# Altium integrated library Maxim Power and Battery Management.IntLib: 645 symbols (part 14 of 15)
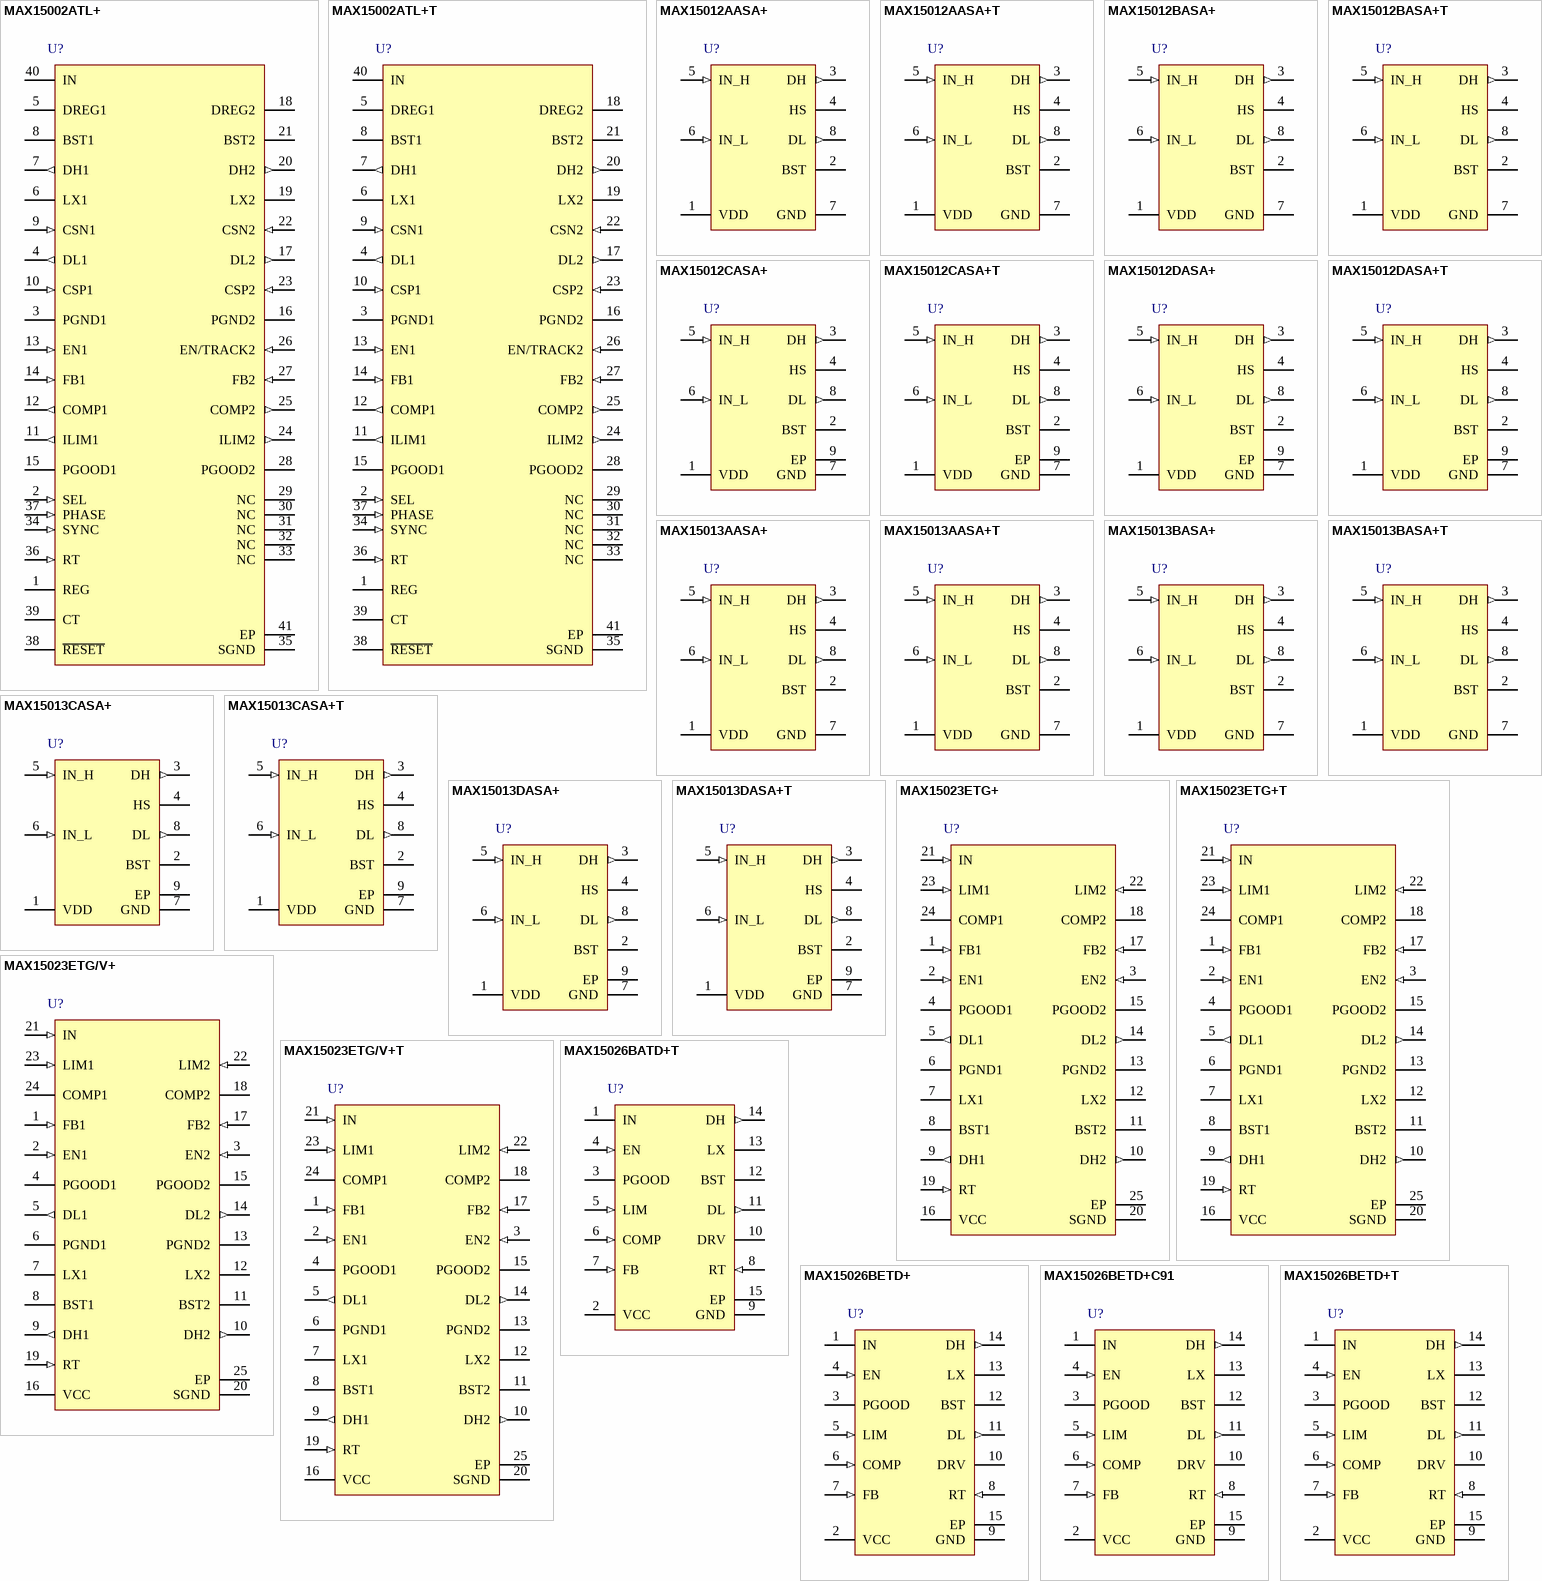
[diagram p32: symbols MAX15002ATL+ to MAX15026BETD+T]

## MAX15023ETG/V+
designator U?
Wide 4.5V to 28V Input, Dual-Output Synchronous Buck Controller, 24-Pin TQFN, -40°C to +85°C, Pb-Free; DatasheetVersion: Rev 2, Mar-2011; PackageVersion: revK, 2011; PackageReference: T2444+4; PackageDescription: 24-Pin Thin Quad Flatpack, No Leads, 4 x 4 x 0.75 mm Body, 0.5 mm Pitch, TQFN, Pb-Free; ComponentLink1Description: Manufacturer URL; ComponentLink1URL: http://www.maxim-ic.com; ComponentLink2Description: Datasheet; ComponentLink2URL: http://datasheets.maxim-ic.com/en/ds/MAX15023.pdf; ComponentLink3Description: Package Specification; ComponentLink3URL: http://pdfserv.maxim-ic.com/package_dwgs/21-0139.PDF
footprint T2444+4_N (QFN, 24-Leads, Body 4x4mm, Pitch 0.5mm, Thermal Pad 2.7x2.7mm, IPC Medium Density)
footprint T2444+4_L (QFN, 24-Leads, Body 4x4mm, Pitch 0.5mm, Thermal Pad 2.7x2.7mm, IPC High Density)
footprint T2444+4_M (QFN, 24-Leads, Body 4x4mm, Pitch 0.5mm, Thermal Pad 2.7x2.7mm, IPC Low Density)
pins: 1 FB1 (in), 2 EN1 (in), 3 EN2 (in), 4 PGOOD1 (oc), 5 DL1 (out), 6 PGND1 (power), 7 LX1, 8 BST1, 9 DH1 (out), 10 DH2 (out), 11 BST2, 12 LX2, 13 PGND2 (power), 14 DL2 (out), 15 PGOOD2 (oc), 16 VCC (power), 17 FB2 (in), 18 COMP2, 19 RT (in), 20 SGND (power), 21 IN (in), 22 LIM2 (in), 23 LIM1 (in), 24 COMP1, 25 EP (power)

## MAX15023ETG/V+T
designator U?
Wide 4.5V to 28V Input, Dual-Output Synchronous Buck Controller, 24-Pin TQFN, -40°C to +85°C, Pb-Free, Tape and Reel; DatasheetVersion: Rev 2, Mar-2011; PackageVersion: revK, 2011; PackageReference: T2444+4; PackageDescription: 24-Pin Thin Quad Flatpack, No Leads, 4 x 4 x 0.75 mm Body, 0.5 mm Pitch, TQFN, Pb-Free; ComponentLink1Description: Manufacturer URL; ComponentLink1URL: http://www.maxim-ic.com; ComponentLink2Description: Datasheet; ComponentLink2URL: http://datasheets.maxim-ic.com/en/ds/MAX15023.pdf; ComponentLink3Description: Package Specification; ComponentLink3URL: http://pdfserv.maxim-ic.com/package_dwgs/21-0139.PDF
footprint T2444+4_N (QFN, 24-Leads, Body 4x4mm, Pitch 0.5mm, Thermal Pad 2.7x2.7mm, IPC Medium Density)
footprint T2444+4_L (QFN, 24-Leads, Body 4x4mm, Pitch 0.5mm, Thermal Pad 2.7x2.7mm, IPC High Density)
footprint T2444+4_M (QFN, 24-Leads, Body 4x4mm, Pitch 0.5mm, Thermal Pad 2.7x2.7mm, IPC Low Density)
pins: 1 FB1 (in), 2 EN1 (in), 3 EN2 (in), 4 PGOOD1 (oc), 5 DL1 (out), 6 PGND1 (power), 7 LX1, 8 BST1, 9 DH1 (out), 10 DH2 (out), 11 BST2, 12 LX2, 13 PGND2 (power), 14 DL2 (out), 15 PGOOD2 (oc), 16 VCC (power), 17 FB2 (in), 18 COMP2, 19 RT (in), 20 SGND (power), 21 IN (in), 22 LIM2 (in), 23 LIM1 (in), 24 COMP1, 25 EP (power)

## MAX15026BATD+T
designator U?
4.5V to 28V Wide Operating Range, DC-DC Synchronous Buck Controller, 14-Pin TDFN-EP, -40°C to +125°C, Pb-Free, Tape and Reel; DatasheetVersion: Rev 3, Apr-2011; PackageVersion: revJ, 2009; PackageReference: T1433+2; PackageDescription: 14-Pin Plastic Very Very Thin Dual Flatpack No Leads (TDFN-EP), 3 x 3 x 0.8 mm Body, 0.4 mm Pitch, Pb-Free; ComponentLink1Description: Manufacturer URL; ComponentLink1URL: http://www.maxim-ic.com; ComponentLink2Description: Datasheet; ComponentLink2URL: http://datasheets.maxim-ic.com/en/ds/MAX15026.pdf; ComponentLink3Description: Package Specification; ComponentLink3URL: http://pdfserv.maxim-ic.com/package_dwgs/21-0137.PDF
footprint T1433+2_V (SON, 14-Leads, Body 3x3mm, Pitch 0.4mm, Thermal Pad 2.35x1.78mm, Maxim Recommended)
pins: 1 IN (power), 2 VCC (power), 3 PGOOD (oc), 4 EN (in), 5 LIM (in), 6 COMP (in), 7 FB (in), 8 RT (in), 9 GND (power), 10 DRV (power), 11 DL (out), 12 BST, 13 LX, 14 DH (out), 15 EP (power)

## MAX15026BETD+
designator U?
4.5V to 28V Wide Operating Range, DC-DC Synchronous Buck Controller, 14-Pin TDFN-EP, -40°C to +85°C, Pb-Free; DatasheetVersion: Rev 3, Apr-2011; PackageVersion: revJ, 2009; PackageReference: T1433+2; PackageDescription: 14-Pin Plastic Very Very Thin Dual Flatpack No Leads (TDFN-EP), 3 x 3 x 0.8 mm Body, 0.4 mm Pitch, Pb-Free; ComponentLink1Description: Manufacturer URL; ComponentLink1URL: http://www.maxim-ic.com; ComponentLink2Description: Datasheet; ComponentLink2URL: http://datasheets.maxim-ic.com/en/ds/MAX15026.pdf; ComponentLink3Description: Package Specification; ComponentLink3URL: http://pdfserv.maxim-ic.com/package_dwgs/21-0137.PDF
footprint T1433+2_V (SON, 14-Leads, Body 3x3mm, Pitch 0.4mm, Thermal Pad 2.35x1.78mm, Maxim Recommended)
pins: 1 IN (power), 2 VCC (power), 3 PGOOD (oc), 4 EN (in), 5 LIM (in), 6 COMP (in), 7 FB (in), 8 RT (in), 9 GND (power), 10 DRV (power), 11 DL (out), 12 BST, 13 LX, 14 DH (out), 15 EP (power)

## MAX15026BETD+C91
designator U?
4.5V to 28V Wide Operating Range, DC-DC Synchronous Buck Controller, 14-Pin TDFN-EP, -40°C to +85°C, Pb-Free; DatasheetVersion: Rev 3, Apr-2011; PackageVersion: revJ, 2009; PackageReference: T1433+2; PackageDescription: 14-Pin Plastic Very Very Thin Dual Flatpack No Leads (TDFN-EP), 3 x 3 x 0.8 mm Body, 0.4 mm Pitch, Pb-Free; ComponentLink1Description: Manufacturer URL; ComponentLink1URL: http://www.maxim-ic.com; ComponentLink2Description: Datasheet; ComponentLink2URL: http://datasheets.maxim-ic.com/en/ds/MAX15026.pdf; ComponentLink3Description: Package Specification; ComponentLink3URL: http://pdfserv.maxim-ic.com/package_dwgs/21-0137.PDF
footprint T1433+2_V (SON, 14-Leads, Body 3x3mm, Pitch 0.4mm, Thermal Pad 2.35x1.78mm, Maxim Recommended)
pins: 1 IN (power), 2 VCC (power), 3 PGOOD (oc), 4 EN (in), 5 LIM (in), 6 COMP (in), 7 FB (in), 8 RT (in), 9 GND (power), 10 DRV (power), 11 DL (out), 12 BST, 13 LX, 14 DH (out), 15 EP (power)

## MAX15026BETD+T
designator U?
4.5V to 28V Wide Operating Range, DC-DC Synchronous Buck Controller, 14-Pin TDFN-EP, -40°C to +85°C, Pb-Free, Tape and Reel; DatasheetVersion: Rev 3, Apr-2011; PackageVersion: revJ, 2009; PackageReference: T1433+2; PackageDescription: 14-Pin Plastic Very Very Thin Dual Flatpack No Leads (TDFN-EP), 3 x 3 x 0.8 mm Body, 0.4 mm Pitch, Pb-Free; ComponentLink1Description: Manufacturer URL; ComponentLink1URL: http://www.maxim-ic.com; ComponentLink2Description: Datasheet; ComponentLink2URL: http://datasheets.maxim-ic.com/en/ds/MAX15026.pdf; ComponentLink3Description: Package Specification; ComponentLink3URL: http://pdfserv.maxim-ic.com/package_dwgs/21-0137.PDF
footprint T1433+2_V (SON, 14-Leads, Body 3x3mm, Pitch 0.4mm, Thermal Pad 2.35x1.78mm, Maxim Recommended)
pins: 1 IN (power), 2 VCC (power), 3 PGOOD (oc), 4 EN (in), 5 LIM (in), 6 COMP (in), 7 FB (in), 8 RT (in), 9 GND (power), 10 DRV (power), 11 DL (out), 12 BST, 13 LX, 14 DH (out), 15 EP (power)

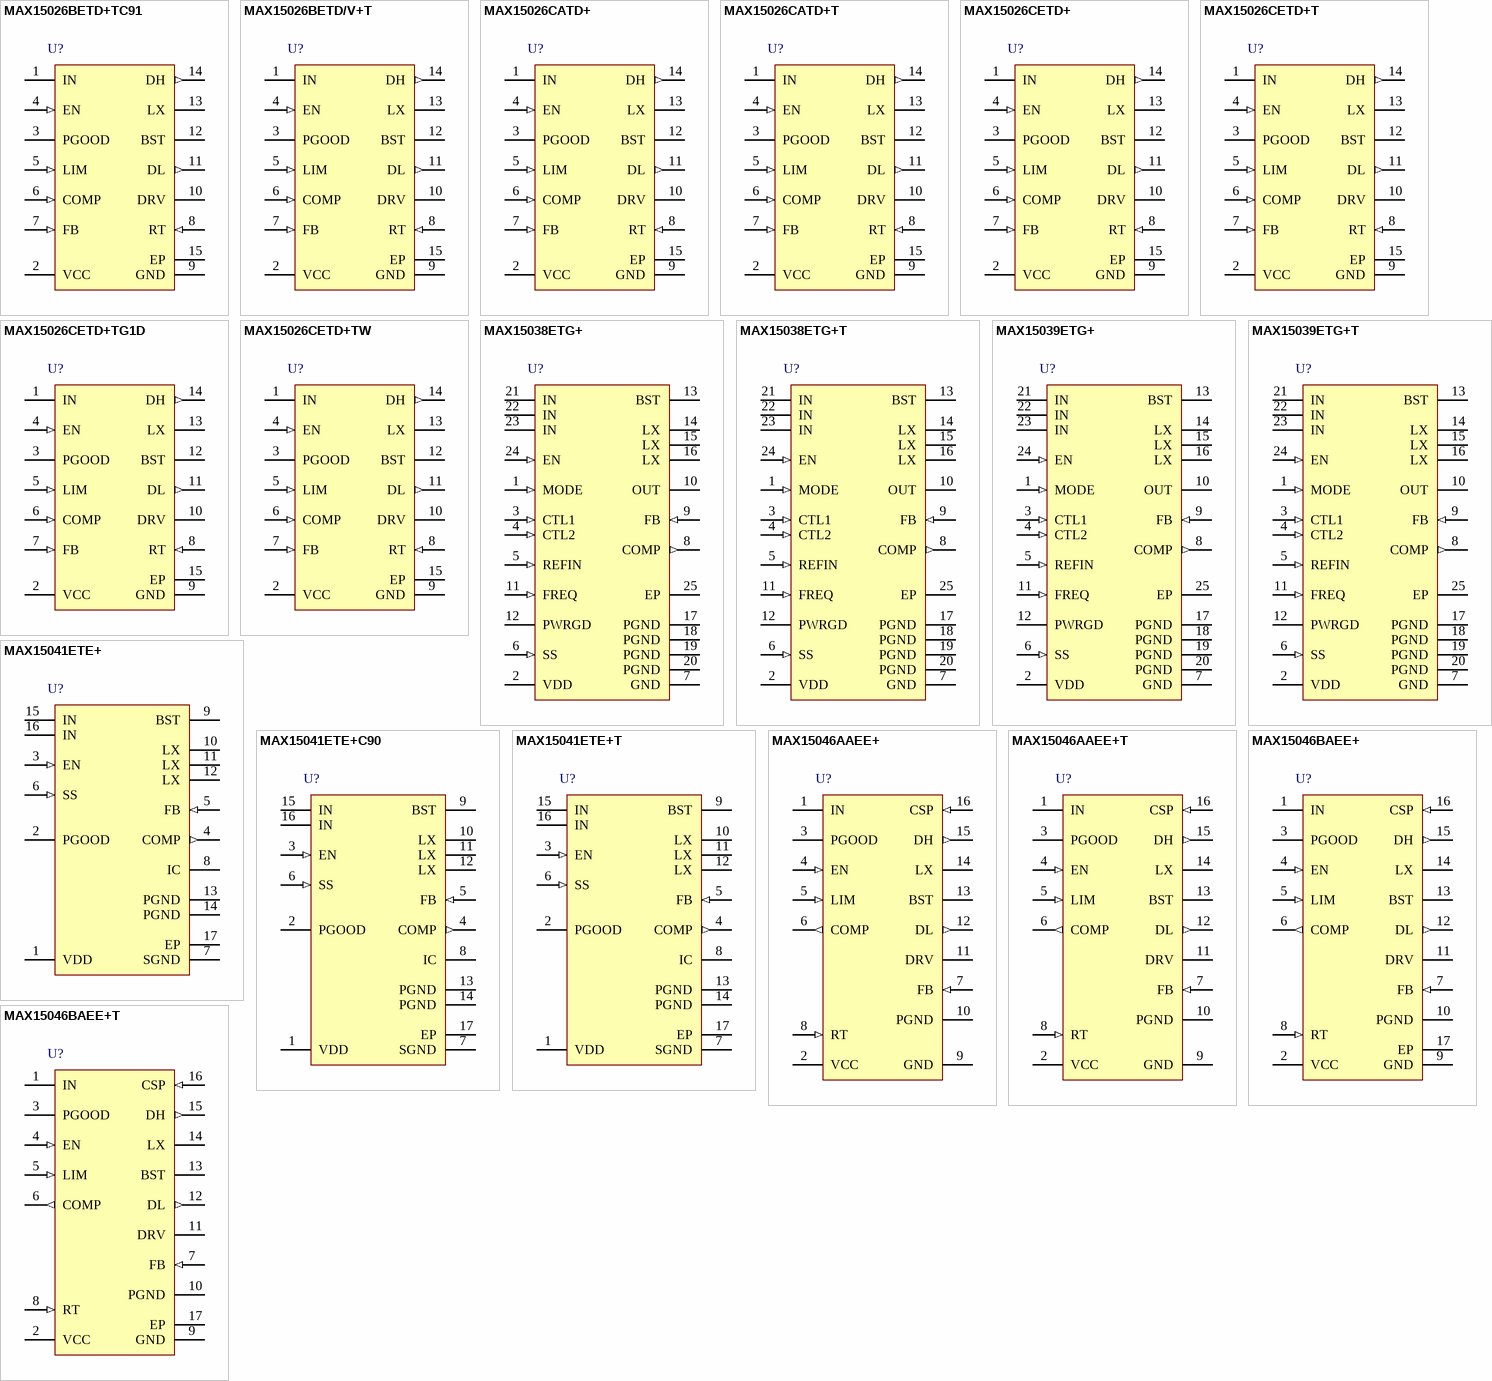
[diagram p18: symbols MAX15026BETD+TC91 to MAX15046BAEE+T]

## MAX15026BETD+TC91
designator U?
4.5V to 28V Wide Operating Range, DC-DC Synchronous Buck Controller, 14-Pin TDFN-EP, -40°C to +85°C, Pb-Free, Tape and Reel; DatasheetVersion: Rev 3, Apr-2011; PackageVersion: revJ, 2009; PackageReference: T1433+2; PackageDescription: 14-Pin Plastic Very Very Thin Dual Flatpack No Leads (TDFN-EP), 3 x 3 x 0.8 mm Body, 0.4 mm Pitch, Pb-Free; ComponentLink1Description: Manufacturer URL; ComponentLink1URL: http://www.maxim-ic.com; ComponentLink2Description: Datasheet; ComponentLink2URL: http://datasheets.maxim-ic.com/en/ds/MAX15026.pdf; ComponentLink3Description: Package Specification; ComponentLink3URL: http://pdfserv.maxim-ic.com/package_dwgs/21-0137.PDF
footprint T1433+2_V (SON, 14-Leads, Body 3x3mm, Pitch 0.4mm, Thermal Pad 2.35x1.78mm, Maxim Recommended)
pins: 1 IN (power), 2 VCC (power), 3 PGOOD (oc), 4 EN (in), 5 LIM (in), 6 COMP (in), 7 FB (in), 8 RT (in), 9 GND (power), 10 DRV (power), 11 DL (out), 12 BST, 13 LX, 14 DH (out), 15 EP (power)

## MAX15026BETD/V+T
designator U?
4.5V to 28V Wide Operating Range, DC-DC Synchronous Buck Controller, 14-Pin TDFN-EP, -40°C to +85°C, Pb-Free, Tape and Reel; DatasheetVersion: Rev 3, Apr-2011; PackageVersion: revJ, 2009; PackageReference: T1433+2; PackageDescription: 14-Pin Plastic Very Very Thin Dual Flatpack No Leads (TDFN-EP), 3 x 3 x 0.8 mm Body, 0.4 mm Pitch, Pb-Free; ComponentLink1Description: Manufacturer URL; ComponentLink1URL: http://www.maxim-ic.com; ComponentLink2Description: Datasheet; ComponentLink2URL: http://datasheets.maxim-ic.com/en/ds/MAX15026.pdf; ComponentLink3Description: Package Specification; ComponentLink3URL: http://pdfserv.maxim-ic.com/package_dwgs/21-0137.PDF
footprint T1433+2_V (SON, 14-Leads, Body 3x3mm, Pitch 0.4mm, Thermal Pad 2.35x1.78mm, Maxim Recommended)
pins: 1 IN (power), 2 VCC (power), 3 PGOOD (oc), 4 EN (in), 5 LIM (in), 6 COMP (in), 7 FB (in), 8 RT (in), 9 GND (power), 10 DRV (power), 11 DL (out), 12 BST, 13 LX, 14 DH (out), 15 EP (power)

## MAX15026CATD+
designator U?
4.5V to 28V Wide Operating Range, DC-DC Synchronous Buck Controller, 14-Pin TDFN-EP, -40°C to +125°C, Pb-Free; DatasheetVersion: Rev 3, Apr-2011; PackageVersion: revJ, 2009; PackageReference: T1433+2; PackageDescription: 14-Pin Plastic Very Very Thin Dual Flatpack No Leads (TDFN-EP), 3 x 3 x 0.8 mm Body, 0.4 mm Pitch, Pb-Free; ComponentLink1Description: Manufacturer URL; ComponentLink1URL: http://www.maxim-ic.com; ComponentLink2Description: Datasheet; ComponentLink2URL: http://datasheets.maxim-ic.com/en/ds/MAX15026.pdf; ComponentLink3Description: Package Specification; ComponentLink3URL: http://pdfserv.maxim-ic.com/package_dwgs/21-0137.PDF
footprint T1433+2_V (SON, 14-Leads, Body 3x3mm, Pitch 0.4mm, Thermal Pad 2.35x1.78mm, Maxim Recommended)
pins: 1 IN (power), 2 VCC (power), 3 PGOOD (oc), 4 EN (in), 5 LIM (in), 6 COMP (in), 7 FB (in), 8 RT (in), 9 GND (power), 10 DRV (power), 11 DL (out), 12 BST, 13 LX, 14 DH (out), 15 EP (power)

## MAX15026CATD+T
designator U?
4.5V to 28V Wide Operating Range, DC-DC Synchronous Buck Controller, 14-Pin TDFN-EP, -40°C to +125°C, Pb-Free, Tape and Reel; DatasheetVersion: Rev 3, Apr-2011; PackageVersion: revJ, 2009; PackageReference: T1433+2; PackageDescription: 14-Pin Plastic Very Very Thin Dual Flatpack No Leads (TDFN-EP), 3 x 3 x 0.8 mm Body, 0.4 mm Pitch, Pb-Free; ComponentLink1Description: Manufacturer URL; ComponentLink1URL: http://www.maxim-ic.com; ComponentLink2Description: Datasheet; ComponentLink2URL: http://datasheets.maxim-ic.com/en/ds/MAX15026.pdf; ComponentLink3Description: Package Specification; ComponentLink3URL: http://pdfserv.maxim-ic.com/package_dwgs/21-0137.PDF
footprint T1433+2_V (SON, 14-Leads, Body 3x3mm, Pitch 0.4mm, Thermal Pad 2.35x1.78mm, Maxim Recommended)
pins: 1 IN (power), 2 VCC (power), 3 PGOOD (oc), 4 EN (in), 5 LIM (in), 6 COMP (in), 7 FB (in), 8 RT (in), 9 GND (power), 10 DRV (power), 11 DL (out), 12 BST, 13 LX, 14 DH (out), 15 EP (power)

## MAX15026CETD+
designator U?
4.5V to 28V Wide Operating Range, DC-DC Synchronous Buck Controller, 14-Pin TDFN-EP, -40°C to +85°C, Pb-Free; DatasheetVersion: Rev 3, Apr-2011; PackageVersion: revJ, 2009; PackageReference: T1433+2; PackageDescription: 14-Pin Plastic Very Very Thin Dual Flatpack No Leads (TDFN-EP), 3 x 3 x 0.8 mm Body, 0.4 mm Pitch, Pb-Free; ComponentLink1Description: Manufacturer URL; ComponentLink1URL: http://www.maxim-ic.com; ComponentLink2Description: Datasheet; ComponentLink2URL: http://datasheets.maxim-ic.com/en/ds/MAX15026.pdf; ComponentLink3Description: Package Specification; ComponentLink3URL: http://pdfserv.maxim-ic.com/package_dwgs/21-0137.PDF
footprint T1433+2_V (SON, 14-Leads, Body 3x3mm, Pitch 0.4mm, Thermal Pad 2.35x1.78mm, Maxim Recommended)
pins: 1 IN (power), 2 VCC (power), 3 PGOOD (oc), 4 EN (in), 5 LIM (in), 6 COMP (in), 7 FB (in), 8 RT (in), 9 GND (power), 10 DRV (power), 11 DL (out), 12 BST, 13 LX, 14 DH (out), 15 EP (power)

## MAX15026CETD+T
designator U?
4.5V to 28V Wide Operating Range, DC-DC Synchronous Buck Controller, 14-Pin TDFN-EP, -40°C to +85°C, Pb-Free, Tape and Reel; DatasheetVersion: Rev 3, Apr-2011; PackageVersion: revJ, 2009; PackageReference: T1433+2; PackageDescription: 14-Pin Plastic Very Very Thin Dual Flatpack No Leads (TDFN-EP), 3 x 3 x 0.8 mm Body, 0.4 mm Pitch, Pb-Free; ComponentLink1Description: Manufacturer URL; ComponentLink1URL: http://www.maxim-ic.com; ComponentLink2Description: Datasheet; ComponentLink2URL: http://datasheets.maxim-ic.com/en/ds/MAX15026.pdf; ComponentLink3Description: Package Specification; ComponentLink3URL: http://pdfserv.maxim-ic.com/package_dwgs/21-0137.PDF
footprint T1433+2_V (SON, 14-Leads, Body 3x3mm, Pitch 0.4mm, Thermal Pad 2.35x1.78mm, Maxim Recommended)
pins: 1 IN (power), 2 VCC (power), 3 PGOOD (oc), 4 EN (in), 5 LIM (in), 6 COMP (in), 7 FB (in), 8 RT (in), 9 GND (power), 10 DRV (power), 11 DL (out), 12 BST, 13 LX, 14 DH (out), 15 EP (power)

## MAX15026CETD+TG1D
designator U?
4.5V to 28V Wide Operating Range, DC-DC Synchronous Buck Controller, 14-Pin TDFN-EP, -40°C to +85°C, Pb-Free, Tape and Reel; DatasheetVersion: Rev 3, Apr-2011; PackageVersion: revJ, 2009; PackageReference: T1433+2; PackageDescription: 14-Pin Plastic Very Very Thin Dual Flatpack No Leads (TDFN-EP), 3 x 3 x 0.8 mm Body, 0.4 mm Pitch, Pb-Free; ComponentLink1Description: Manufacturer URL; ComponentLink1URL: http://www.maxim-ic.com; ComponentLink2Description: Datasheet; ComponentLink2URL: http://datasheets.maxim-ic.com/en/ds/MAX15026.pdf; ComponentLink3Description: Package Specification; ComponentLink3URL: http://pdfserv.maxim-ic.com/package_dwgs/21-0137.PDF
footprint T1433+2_V (SON, 14-Leads, Body 3x3mm, Pitch 0.4mm, Thermal Pad 2.35x1.78mm, Maxim Recommended)
pins: 1 IN (power), 2 VCC (power), 3 PGOOD (oc), 4 EN (in), 5 LIM (in), 6 COMP (in), 7 FB (in), 8 RT (in), 9 GND (power), 10 DRV (power), 11 DL (out), 12 BST, 13 LX, 14 DH (out), 15 EP (power)

## MAX15026CETD+TW
designator U?
4.5V to 28V Wide Operating Range, DC-DC Synchronous Buck Controller, 14-Pin TDFN-EP, -40°C to +85°C, Pb-Free, Tape and Reel; DatasheetVersion: Rev 3, Apr-2011; PackageVersion: revJ, 2009; PackageReference: T1433+2; PackageDescription: 14-Pin Plastic Very Very Thin Dual Flatpack No Leads (TDFN-EP), 3 x 3 x 0.8 mm Body, 0.4 mm Pitch, Pb-Free; ComponentLink1Description: Manufacturer URL; ComponentLink1URL: http://www.maxim-ic.com; ComponentLink2Description: Datasheet; ComponentLink2URL: http://datasheets.maxim-ic.com/en/ds/MAX15026.pdf; ComponentLink3Description: Package Specification; ComponentLink3URL: http://pdfserv.maxim-ic.com/package_dwgs/21-0137.PDF
footprint T1433+2_V (SON, 14-Leads, Body 3x3mm, Pitch 0.4mm, Thermal Pad 2.35x1.78mm, Maxim Recommended)
pins: 1 IN (power), 2 VCC (power), 3 PGOOD (oc), 4 EN (in), 5 LIM (in), 6 COMP (in), 7 FB (in), 8 RT (in), 9 GND (power), 10 DRV (power), 11 DL (out), 12 BST, 13 LX, 14 DH (out), 15 EP (power)

## MAX15038ETG+
designator U?
4A, 2MHz Step-Down Regulator with Integrated Switches, 24-Pin TQFN, -40°C to +85°C, Pb-Free; DatasheetVersion: Rev 3, Dec-2010; PackageVersion: revK, 2011; PackageReference: T2444+4; PackageDescription: 24-Pin Thin Quad Flatpack, No Leads, 4 x 4 x 0.75 mm Body, 0.5 mm Pitch, TQFN, Pb-Free; ComponentLink1Description: Manufacturer URL; ComponentLink1URL: http://www.maxim-ic.com; ComponentLink2Description: Datasheet; ComponentLink2URL: http://datasheets.maxim-ic.com/en/ds/MAX15038.pdf; ComponentLink3Description: Package Specification; ComponentLink3URL: http://pdfserv.maxim-ic.com/package_dwgs/21-0139.PDF
footprint T2444+4_N (QFN, 24-Leads, Body 4x4mm, Pitch 0.5mm, Thermal Pad 2.7x2.7mm, IPC Medium Density)
footprint T2444+4_L (QFN, 24-Leads, Body 4x4mm, Pitch 0.5mm, Thermal Pad 2.7x2.7mm, IPC High Density)
footprint T2444+4_M (QFN, 24-Leads, Body 4x4mm, Pitch 0.5mm, Thermal Pad 2.7x2.7mm, IPC Low Density)
pins: 1 MODE (in), 2 VDD (power), 3 CTL1 (in), 4 CTL2 (in), 5 REFIN (in), 6 SS (in), 7 GND (power), 8 COMP (out), 9 FB (in), 10 OUT, 11 FREQ (in), 12 PWRGD (oc), 13 BST, 14 LX, 15 LX, 16 LX, 17 PGND (power), 18 PGND (power), 19 PGND (power), 20 PGND (power), 21 IN (power), 22 IN (power), 23 IN (power), 24 EN (in), 25 EP (power)

## MAX15038ETG+T
designator U?
4A, 2MHz Step-Down Regulator with Integrated Switches, 24-Pin TQFN, -40°C to +85°C, Pb-Free, Tape and Reel; DatasheetVersion: Rev 3, Dec-2010; PackageVersion: revK, 2011; PackageReference: T2444+4; PackageDescription: 24-Pin Thin Quad Flatpack, No Leads, 4 x 4 x 0.75 mm Body, 0.5 mm Pitch, TQFN, Pb-Free; ComponentLink1Description: Manufacturer URL; ComponentLink1URL: http://www.maxim-ic.com; ComponentLink2Description: Datasheet; ComponentLink2URL: http://datasheets.maxim-ic.com/en/ds/MAX15038.pdf; ComponentLink3Description: Package Specification; ComponentLink3URL: http://pdfserv.maxim-ic.com/package_dwgs/21-0139.PDF
footprint T2444+4_N (QFN, 24-Leads, Body 4x4mm, Pitch 0.5mm, Thermal Pad 2.7x2.7mm, IPC Medium Density)
footprint T2444+4_L (QFN, 24-Leads, Body 4x4mm, Pitch 0.5mm, Thermal Pad 2.7x2.7mm, IPC High Density)
footprint T2444+4_M (QFN, 24-Leads, Body 4x4mm, Pitch 0.5mm, Thermal Pad 2.7x2.7mm, IPC Low Density)
pins: 1 MODE (in), 2 VDD (power), 3 CTL1 (in), 4 CTL2 (in), 5 REFIN (in), 6 SS (in), 7 GND (power), 8 COMP (out), 9 FB (in), 10 OUT, 11 FREQ (in), 12 PWRGD (oc), 13 BST, 14 LX, 15 LX, 16 LX, 17 PGND (power), 18 PGND (power), 19 PGND (power), 20 PGND (power), 21 IN (power), 22 IN (power), 23 IN (power), 24 EN (in), 25 EP (power)

## MAX15039ETG+
designator U?
6A, 2MHz Step-Down Regulator with Integrated Switches, 24-Pin TQFN, -40°C to +85°C, Pb-Free; DatasheetVersion: Rev 3, Dec-2010; PackageVersion: revK, 2011; PackageReference: T2444+4; PackageDescription: 24-Pin Thin Quad Flatpack, No Leads, 4 x 4 x 0.75 mm Body, 0.5 mm Pitch, TQFN, Pb-Free; ComponentLink1Description: Manufacturer URL; ComponentLink1URL: http://www.maxim-ic.com; ComponentLink2Description: Datasheet; ComponentLink2URL: http://datasheets.maxim-ic.com/en/ds/MAX15039.pdf; ComponentLink3Description: Package Specification; ComponentLink3URL: http://pdfserv.maxim-ic.com/package_dwgs/21-0139.PDF
footprint T2444+4_N (QFN, 24-Leads, Body 4x4mm, Pitch 0.5mm, Thermal Pad 2.7x2.7mm, IPC Medium Density)
footprint T2444+4_L (QFN, 24-Leads, Body 4x4mm, Pitch 0.5mm, Thermal Pad 2.7x2.7mm, IPC High Density)
footprint T2444+4_M (QFN, 24-Leads, Body 4x4mm, Pitch 0.5mm, Thermal Pad 2.7x2.7mm, IPC Low Density)
pins: 1 MODE (in), 2 VDD (power), 3 CTL1 (in), 4 CTL2 (in), 5 REFIN (in), 6 SS (in), 7 GND (power), 8 COMP (out), 9 FB (in), 10 OUT, 11 FREQ (in), 12 PWRGD (oc), 13 BST, 14 LX, 15 LX, 16 LX, 17 PGND (power), 18 PGND (power), 19 PGND (power), 20 PGND (power), 21 IN (power), 22 IN (power), 23 IN (power), 24 EN (in), 25 EP (power)

## MAX15039ETG+T
designator U?
6A, 2MHz Step-Down Regulator with Integrated Switches, 24-Pin TQFN, -40°C to +85°C, Pb-Free, Tape and Reel; DatasheetVersion: Rev 3, Dec-2010; PackageVersion: revK, 2011; PackageReference: T2444+4; PackageDescription: 24-Pin Thin Quad Flatpack, No Leads, 4 x 4 x 0.75 mm Body, 0.5 mm Pitch, TQFN, Pb-Free; ComponentLink1Description: Manufacturer URL; ComponentLink1URL: http://www.maxim-ic.com; ComponentLink2Description: Datasheet; ComponentLink2URL: http://datasheets.maxim-ic.com/en/ds/MAX15039.pdf; ComponentLink3Description: Package Specification; ComponentLink3URL: http://pdfserv.maxim-ic.com/package_dwgs/21-0139.PDF
footprint T2444+4_N (QFN, 24-Leads, Body 4x4mm, Pitch 0.5mm, Thermal Pad 2.7x2.7mm, IPC Medium Density)
footprint T2444+4_L (QFN, 24-Leads, Body 4x4mm, Pitch 0.5mm, Thermal Pad 2.7x2.7mm, IPC High Density)
footprint T2444+4_M (QFN, 24-Leads, Body 4x4mm, Pitch 0.5mm, Thermal Pad 2.7x2.7mm, IPC Low Density)
pins: 1 MODE (in), 2 VDD (power), 3 CTL1 (in), 4 CTL2 (in), 5 REFIN (in), 6 SS (in), 7 GND (power), 8 COMP (out), 9 FB (in), 10 OUT, 11 FREQ (in), 12 PWRGD (oc), 13 BST, 14 LX, 15 LX, 16 LX, 17 PGND (power), 18 PGND (power), 19 PGND (power), 20 PGND (power), 21 IN (power), 22 IN (power), 23 IN (power), 24 EN (in), 25 EP (power)

## MAX15041ETE+
designator U?
Low-Cost, 3A, 4.5V to 28V Input, 350kHz, PWM Step-Down DC-DC Regulator with Internal Switches, 16-Pin TQFN, -40°C to +85°C, Pb-Free; DatasheetVersion: Rev 3, Mar-2011; PackageVersion: revJ, 2010; PackageReference: T1633+4; PackageDescription: 16-Pin Thin Quad Flatpack, No Leads, 3 x 3 x 0.75 mm Body, 0.5 mm Pitch, TQFN, Pb-Free; Code_JEDEC: MO-220WEED-2; ComponentLink1Description: Manufacturer URL; ComponentLink1URL: http://www.maxim-ic.com; ComponentLink2Description: Datasheet; ComponentLink2URL: http://datasheets.maxim-ic.com/en/ds/MAX15041.pdf; ComponentLink3Description: Package Specification; ComponentLink3URL: http://pdfserv.maxim-ic.com/package_dwgs/21-0136.PDF
footprint T1633+4_N (QFN, 16-Leads, Body 3x3mm, Pitch 0.5mm, Thermal Pad 1.1x1.1mm, IPC Medium Density)
footprint T1633+4_L (QFN, 16-Leads, Body 3x3mm, Pitch 0.5mm, Thermal Pad 1.1x1.1mm, IPC High Density)
footprint T1633+4_M (QFN, 16-Leads, Body 3x3mm, Pitch 0.5mm, Thermal Pad 1.1x1.1mm, IPC Low Density)
pins: 1 VDD (power), 2 PGOOD (oc), 3 EN (in), 4 COMP (out), 5 FB (in), 6 SS (in), 7 SGND (power), 8 IC (power), 9 BST, 10 LX, 11 LX, 12 LX, 13 PGND (power), 14 PGND (power), 15 IN (power), 16 IN (power), 17 EP (power)

## MAX15041ETE+C90
designator U?
Custom Low-Cost, 3A, 4.5V to 28V Input, 350kHz, PWM Step-Down DC-DC Regulator with Internal Switches, 16-Pin TQFN, -40°C to +85°C, Pb-Free, Tape and Reel; DatasheetVersion: Rev 3, Mar-2011; PackageVersion: revJ, 2010; PackageReference: T1633+4; PackageDescription: 16-Pin Thin Quad Flatpack, No Leads, 3 x 3 x 0.75 mm Body, 0.5 mm Pitch, TQFN, Pb-Free; Code_JEDEC: MO-220WEED-2; ComponentLink1Description: Manufacturer URL; ComponentLink1URL: http://www.maxim-ic.com; ComponentLink2Description: Datasheet; ComponentLink2URL: http://datasheets.maxim-ic.com/en/ds/MAX15041.pdf; ComponentLink3Description: Package Specification; ComponentLink3URL: http://pdfserv.maxim-ic.com/package_dwgs/21-0136.PDF
footprint T1633+4_N (QFN, 16-Leads, Body 3x3mm, Pitch 0.5mm, Thermal Pad 1.1x1.1mm, IPC Medium Density)
footprint T1633+4_L (QFN, 16-Leads, Body 3x3mm, Pitch 0.5mm, Thermal Pad 1.1x1.1mm, IPC High Density)
footprint T1633+4_M (QFN, 16-Leads, Body 3x3mm, Pitch 0.5mm, Thermal Pad 1.1x1.1mm, IPC Low Density)
pins: 1 VDD (power), 2 PGOOD (oc), 3 EN (in), 4 COMP (out), 5 FB (in), 6 SS (in), 7 SGND (power), 8 IC (power), 9 BST, 10 LX, 11 LX, 12 LX, 13 PGND (power), 14 PGND (power), 15 IN (power), 16 IN (power), 17 EP (power)

## MAX15041ETE+T
designator U?
Low-Cost, 3A, 4.5V to 28V Input, 350kHz, PWM Step-Down DC-DC Regulator with Internal Switches, 16-Pin TQFN, -40°C to +85°C, Pb-Free, Tape and Reel; DatasheetVersion: Rev 3, Mar-2011; PackageVersion: revJ, 2010; PackageReference: T1633+4; PackageDescription: 16-Pin Thin Quad Flatpack, No Leads, 3 x 3 x 0.75 mm Body, 0.5 mm Pitch, TQFN, Pb-Free; Code_JEDEC: MO-220WEED-2; ComponentLink1Description: Manufacturer URL; ComponentLink1URL: http://www.maxim-ic.com; ComponentLink2Description: Datasheet; ComponentLink2URL: http://datasheets.maxim-ic.com/en/ds/MAX15041.pdf; ComponentLink3Description: Package Specification; ComponentLink3URL: http://pdfserv.maxim-ic.com/package_dwgs/21-0136.PDF
footprint T1633+4_N (QFN, 16-Leads, Body 3x3mm, Pitch 0.5mm, Thermal Pad 1.1x1.1mm, IPC Medium Density)
footprint T1633+4_L (QFN, 16-Leads, Body 3x3mm, Pitch 0.5mm, Thermal Pad 1.1x1.1mm, IPC High Density)
footprint T1633+4_M (QFN, 16-Leads, Body 3x3mm, Pitch 0.5mm, Thermal Pad 1.1x1.1mm, IPC Low Density)
pins: 1 VDD (power), 2 PGOOD (oc), 3 EN (in), 4 COMP (out), 5 FB (in), 6 SS (in), 7 SGND (power), 8 IC (power), 9 BST, 10 LX, 11 LX, 12 LX, 13 PGND (power), 14 PGND (power), 15 IN (power), 16 IN (power), 17 EP (power)

## MAX15046AAEE+
designator U?
40V, High-Performance, Synchronous Buck Controller, 16-Pin QSOP, -40°C to +125°C, Pb-Free; DatasheetVersion: Rev 1, Feb-2010; PackageVersion: revJ, 2009; PackageReference: E16+4; PackageDescription: 16-Pin Quarter Small-Outline Package (QSOP) 0.150" Width, 0.025" Pitch, Pb-Free; Code_JEDEC: MO-137-AB; ComponentLink1Description: Manufacturer URL; ComponentLink1URL: http://www.maxim-ic.com; ComponentLink2Description: Datasheet; ComponentLink2URL: http://datasheets.maxim-ic.com/en/ds/MAX15046-MAX15046B.pdf; ComponentLink3Description: Package Specification; ComponentLink3URL: http://pdfserv.maxim-ic.com/package_dwgs/21-0055.PDF
footprint E16+4_N (SOP, 16-Leads, Body 4.9x3.9mm, Pitch 0.635mm, IPC Medium Density)
footprint E16+4_L (SOP, 16-Leads, Body 4.9x3.9mm, Pitch 0.635mm, IPC High Density)
footprint E16+4_M (SOP, 16-Leads, Body 4.9x3.9mm, Pitch 0.635mm, IPC Low Density)
pins: 1 IN (power), 2 VCC (power), 3 PGOOD (oc), 4 EN (in), 5 LIM (in), 6 COMP (out), 7 FB (in), 8 RT (in), 9 GND (power), 10 PGND (power), 11 DRV (power), 12 DL (out), 13 BST, 14 LX, 15 DH (out), 16 CSP (in)

## MAX15046AAEE+T
designator U?
40V, High-Performance, Synchronous Buck Controller, 16-Pin QSOP, -40°C to +125°C, Pb-Free, Tape and Reel; DatasheetVersion: Rev 1, Feb-2010; PackageVersion: revJ, 2009; PackageReference: E16+4; PackageDescription: 16-Pin Quarter Small-Outline Package (QSOP) 0.150" Width, 0.025" Pitch, Pb-Free; Code_JEDEC: MO-137-AB; ComponentLink1Description: Manufacturer URL; ComponentLink1URL: http://www.maxim-ic.com; ComponentLink2Description: Datasheet; ComponentLink2URL: http://datasheets.maxim-ic.com/en/ds/MAX15046-MAX15046B.pdf; ComponentLink3Description: Package Specification; ComponentLink3URL: http://pdfserv.maxim-ic.com/package_dwgs/21-0055.PDF
footprint E16+4_N (SOP, 16-Leads, Body 4.9x3.9mm, Pitch 0.635mm, IPC Medium Density)
footprint E16+4_L (SOP, 16-Leads, Body 4.9x3.9mm, Pitch 0.635mm, IPC High Density)
footprint E16+4_M (SOP, 16-Leads, Body 4.9x3.9mm, Pitch 0.635mm, IPC Low Density)
pins: 1 IN (power), 2 VCC (power), 3 PGOOD (oc), 4 EN (in), 5 LIM (in), 6 COMP (out), 7 FB (in), 8 RT (in), 9 GND (power), 10 PGND (power), 11 DRV (power), 12 DL (out), 13 BST, 14 LX, 15 DH (out), 16 CSP (in)

## MAX15046BAEE+
designator U?
40V, High-Performance, Synchronous Buck Controller, 16-Pin QSOP-EP, -40°C to +125°C, Pb-Free; DatasheetVersion: Rev 1, Feb-2010; PackageVersion: revH, 2010; PackageReference: E16E+9; PackageDescription: 16-Pin Quarter Small-Outline Package, Exposed Pad, (QSOP-EP) 0.150" Width, 0.635 mm Pitch, Pb-Free; ComponentLink1Description: Manufacturer URL; ComponentLink1URL: http://www.maxim-ic.com; ComponentLink2Description: Datasheet; ComponentLink2URL: http://datasheets.maxim-ic.com/en/ds/MAX15046-MAX15046B.pdf; ComponentLink3Description: Package Specification; ComponentLink3URL: http://pdfserv.maxim-ic.com/package_dwgs/21-0112.PDF
footprint E16E+9_N (SOP, 16-Leads, Body 4.9x3.9mm, Pitch 0.635mm, Thermal Pad 2.15x2.3mm, IPC Medium Density)
footprint E16E+9_L (SOP, 16-Leads, Body 4.9x3.9mm, Pitch 0.635mm, Thermal Pad 2.15x2.3mm, IPC High Density)
footprint E16E+9_M (SOP, 16-Leads, Body 4.9x3.9mm, Pitch 0.635mm, Thermal Pad 2.15x2.3mm, IPC Low Density)
pins: 1 IN (power), 2 VCC (power), 3 PGOOD (oc), 4 EN (in), 5 LIM (in), 6 COMP (out), 7 FB (in), 8 RT (in), 9 GND (power), 10 PGND (power), 11 DRV (power), 12 DL (out), 13 BST, 14 LX, 15 DH (out), 16 CSP (in), 17 EP (power)

## MAX15046BAEE+T
designator U?
40V, High-Performance, Synchronous Buck Controller, 16-Pin QSOP-EP, -40°C to +125°C, Pb-Free, Tape and Reel; DatasheetVersion: Rev 1, Feb-2010; PackageVersion: revH, 2010; PackageReference: E16E+9; PackageDescription: 16-Pin Quarter Small-Outline Package, Exposed Pad, (QSOP-EP) 0.150" Width, 0.635 mm Pitch, Pb-Free; ComponentLink1Description: Manufacturer URL; ComponentLink1URL: http://www.maxim-ic.com; ComponentLink2Description: Datasheet; ComponentLink2URL: http://datasheets.maxim-ic.com/en/ds/MAX15046-MAX15046B.pdf; ComponentLink3Description: Package Specification; ComponentLink3URL: http://pdfserv.maxim-ic.com/package_dwgs/21-0112.PDF
footprint E16E+9_N (SOP, 16-Leads, Body 4.9x3.9mm, Pitch 0.635mm, Thermal Pad 2.15x2.3mm, IPC Medium Density)
footprint E16E+9_L (SOP, 16-Leads, Body 4.9x3.9mm, Pitch 0.635mm, Thermal Pad 2.15x2.3mm, IPC High Density)
footprint E16E+9_M (SOP, 16-Leads, Body 4.9x3.9mm, Pitch 0.635mm, Thermal Pad 2.15x2.3mm, IPC Low Density)
pins: 1 IN (power), 2 VCC (power), 3 PGOOD (oc), 4 EN (in), 5 LIM (in), 6 COMP (out), 7 FB (in), 8 RT (in), 9 GND (power), 10 PGND (power), 11 DRV (power), 12 DL (out), 13 BST, 14 LX, 15 DH (out), 16 CSP (in), 17 EP (power)

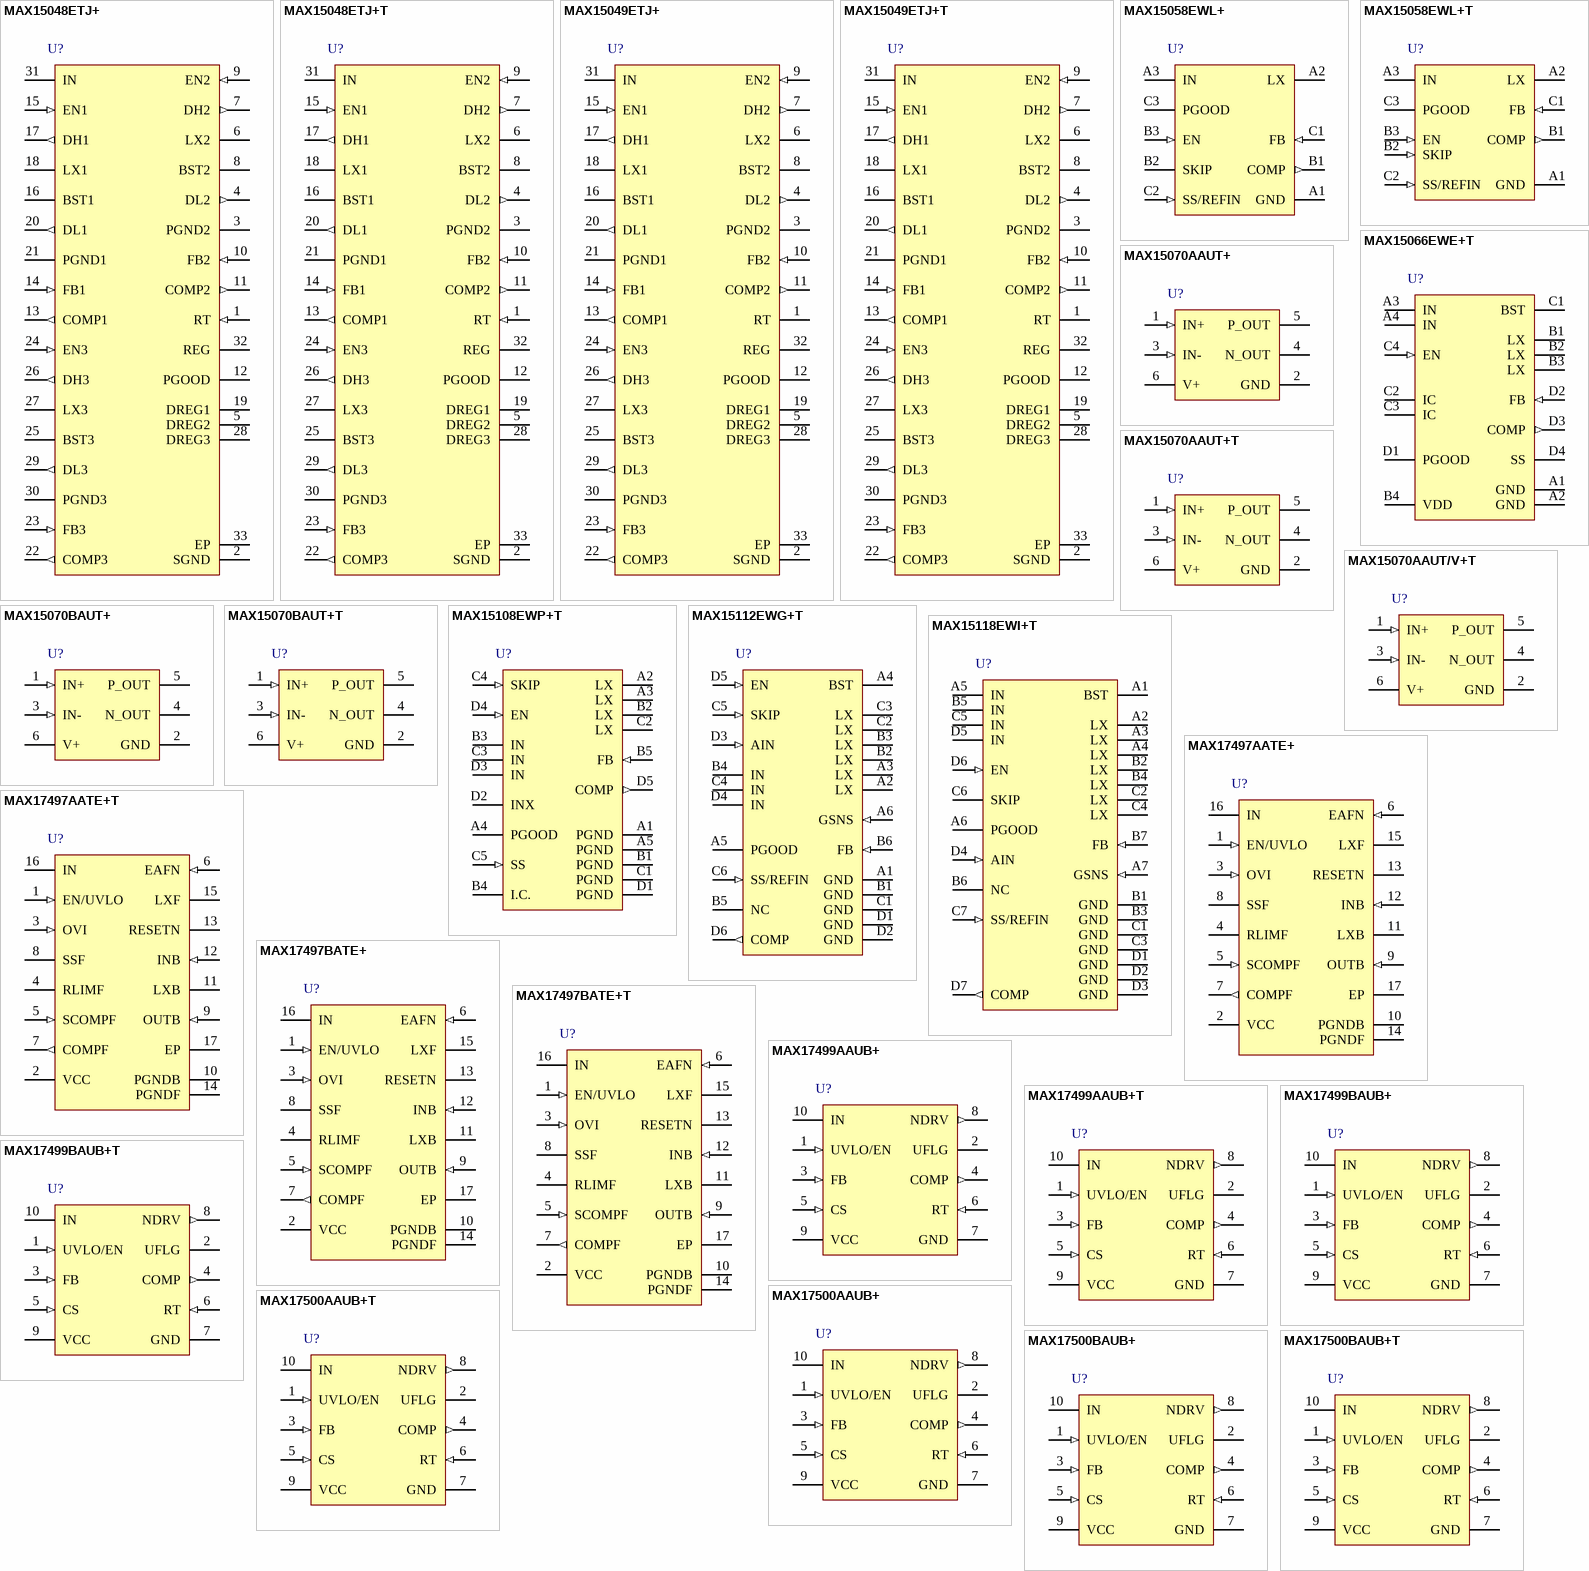
[diagram p19: symbols MAX15048ETJ+ to MAX17500BAUB+T]

## MAX15048ETJ+
designator U?
Triple-Output Buck Controller with Tracking/Sequencing, 32-Pin TQFN, -40°C to +85°C, Pb-Free; DatasheetVersion: Rev 0, Jan-2010; PackageVersion: revO, 2011; PackageReference: T3255+4; PackageDescription: 32-Pin Thin Quad Flatpack, No Leads, 5 x 5 x 0.75 mm Body, 0.5 mm Pitch, TQFN, Pb-Free; Code_JEDEC: MO-220-WHHD-2; ComponentLink1Description: Manufacturer URL; ComponentLink1URL: http://www.maxim-ic.com; ComponentLink2Description: Datasheet; ComponentLink2URL: http://datasheets.maxim-ic.com/en/ds/MAX15048-MAX15049.pdf; ComponentLink3Description: Package Specification; ComponentLink3URL: http://pdfserv.maxim-ic.com/package_dwgs/21-0140.PDF
footprint T3255+4_N (QFN, 32-Leads, Body 5x5mm, Pitch 0.5mm, Thermal Pad 3.2x3.2mm, IPC Medium Density)
footprint T3255+4_L (QFN, 32-Leads, Body 5x5mm, Pitch 0.5mm, Thermal Pad 3.2x3.2mm, IPC High Density)
footprint T3255+4_M (QFN, 32-Leads, Body 5x5mm, Pitch 0.5mm, Thermal Pad 3.2x3.2mm, IPC Low Density)
pins: 1 RT (in), 2 SGND (power), 3 PGND2 (power), 4 DL2 (out), 5 DREG2 (power), 6 LX2, 7 DH2 (out), 8 BST2 (power), 9 EN2 (in), 10 FB2 (in), 11 COMP2 (out), 12 PGOOD (oc), 13 COMP1 (out), 14 FB1 (in), 15 EN1 (in), 16 BST1 (power), 17 DH1 (out), 18 LX1, 19 DREG1 (power), 20 DL1 (out), 21 PGND1 (power), 22 COMP3 (out), 23 FB3 (in), 24 EN3 (in), 25 BST3 (power), 26 DH3 (out), 27 LX3, 28 DREG3 (power), 29 DL3 (out), 30 PGND3 (power), 31 IN (power), 32 REG (power), 33 EP (power)

## MAX15048ETJ+T
designator U?
Triple-Output Buck Controller with Tracking/Sequencing, 32-Pin TQFN, -40°C to +85°C, Pb-Free, Tape and Reel; DatasheetVersion: Rev 0, Jan-2010; PackageVersion: revO, 2011; PackageReference: T3255+4; PackageDescription: 32-Pin Thin Quad Flatpack, No Leads, 5 x 5 x 0.75 mm Body, 0.5 mm Pitch, TQFN, Pb-Free; Code_JEDEC: MO-220-WHHD-2; ComponentLink1Description: Manufacturer URL; ComponentLink1URL: http://www.maxim-ic.com; ComponentLink2Description: Datasheet; ComponentLink2URL: http://datasheets.maxim-ic.com/en/ds/MAX15048-MAX15049.pdf; ComponentLink3Description: Package Specification; ComponentLink3URL: http://pdfserv.maxim-ic.com/package_dwgs/21-0140.PDF
footprint T3255+4_N (QFN, 32-Leads, Body 5x5mm, Pitch 0.5mm, Thermal Pad 3.2x3.2mm, IPC Medium Density)
footprint T3255+4_L (QFN, 32-Leads, Body 5x5mm, Pitch 0.5mm, Thermal Pad 3.2x3.2mm, IPC High Density)
footprint T3255+4_M (QFN, 32-Leads, Body 5x5mm, Pitch 0.5mm, Thermal Pad 3.2x3.2mm, IPC Low Density)
pins: 1 RT (in), 2 SGND (power), 3 PGND2 (power), 4 DL2 (out), 5 DREG2 (power), 6 LX2, 7 DH2 (out), 8 BST2 (power), 9 EN2 (in), 10 FB2 (in), 11 COMP2 (out), 12 PGOOD (oc), 13 COMP1 (out), 14 FB1 (in), 15 EN1 (in), 16 BST1 (power), 17 DH1 (out), 18 LX1, 19 DREG1 (power), 20 DL1 (out), 21 PGND1 (power), 22 COMP3 (out), 23 FB3 (in), 24 EN3 (in), 25 BST3 (power), 26 DH3 (out), 27 LX3, 28 DREG3 (power), 29 DL3 (out), 30 PGND3 (power), 31 IN (power), 32 REG (power), 33 EP (power)

## MAX15049ETJ+
designator U?
Triple-Output Buck Controller with Tracking/Sequencing, 32-Pin TQFN, -40°C to +85°C, Pb-Free; DatasheetVersion: Rev 0, Jan-2010; PackageVersion: revO, 2011; PackageReference: T3255+4; PackageDescription: 32-Pin Thin Quad Flatpack, No Leads, 5 x 5 x 0.75 mm Body, 0.5 mm Pitch, TQFN, Pb-Free; Code_JEDEC: MO-220-WHHD-2; ComponentLink1Description: Manufacturer URL; ComponentLink1URL: http://www.maxim-ic.com; ComponentLink2Description: Datasheet; ComponentLink2URL: http://datasheets.maxim-ic.com/en/ds/MAX15048-MAX15049.pdf; ComponentLink3Description: Package Specification; ComponentLink3URL: http://pdfserv.maxim-ic.com/package_dwgs/21-0140.PDF
footprint T3255+4_N (QFN, 32-Leads, Body 5x5mm, Pitch 0.5mm, Thermal Pad 3.2x3.2mm, IPC Medium Density)
footprint T3255+4_L (QFN, 32-Leads, Body 5x5mm, Pitch 0.5mm, Thermal Pad 3.2x3.2mm, IPC High Density)
footprint T3255+4_M (QFN, 32-Leads, Body 5x5mm, Pitch 0.5mm, Thermal Pad 3.2x3.2mm, IPC Low Density)
pins: 1 RT, 2 SGND (power), 3 PGND2 (power), 4 DL2 (out), 5 DREG2 (power), 6 LX2, 7 DH2 (out), 8 BST2 (power), 9 EN2 (in), 10 FB2 (in), 11 COMP2 (out), 12 PGOOD (oc), 13 COMP1 (out), 14 FB1 (in), 15 EN1 (in), 16 BST1 (power), 17 DH1 (out), 18 LX1, 19 DREG1 (power), 20 DL1 (out), 21 PGND1 (power), 22 COMP3 (out), 23 FB3 (in), 24 EN3 (in), 25 BST3 (power), 26 DH3 (out), 27 LX3, 28 DREG3 (power), 29 DL3 (out), 30 PGND3 (power), 31 IN (power), 32 REG (power), 33 EP (power)

## MAX15049ETJ+T
designator U?
Triple-Output Buck Controller with Tracking/Sequencing, 32-Pin TQFN, -40°C to +85°C, Pb-Free, Tape and Reel; DatasheetVersion: Rev 0, Jan-2010; PackageVersion: revO, 2011; PackageReference: T3255+4; PackageDescription: 32-Pin Thin Quad Flatpack, No Leads, 5 x 5 x 0.75 mm Body, 0.5 mm Pitch, TQFN, Pb-Free; Code_JEDEC: MO-220-WHHD-2; ComponentLink1Description: Manufacturer URL; ComponentLink1URL: http://www.maxim-ic.com; ComponentLink2Description: Datasheet; ComponentLink2URL: http://datasheets.maxim-ic.com/en/ds/MAX15048-MAX15049.pdf; ComponentLink3Description: Package Specification; ComponentLink3URL: http://pdfserv.maxim-ic.com/package_dwgs/21-0140.PDF
footprint T3255+4_N (QFN, 32-Leads, Body 5x5mm, Pitch 0.5mm, Thermal Pad 3.2x3.2mm, IPC Medium Density)
footprint T3255+4_L (QFN, 32-Leads, Body 5x5mm, Pitch 0.5mm, Thermal Pad 3.2x3.2mm, IPC High Density)
footprint T3255+4_M (QFN, 32-Leads, Body 5x5mm, Pitch 0.5mm, Thermal Pad 3.2x3.2mm, IPC Low Density)
pins: 1 RT, 2 SGND (power), 3 PGND2 (power), 4 DL2 (out), 5 DREG2 (power), 6 LX2, 7 DH2 (out), 8 BST2 (power), 9 EN2 (in), 10 FB2 (in), 11 COMP2 (out), 12 PGOOD (oc), 13 COMP1 (out), 14 FB1 (in), 15 EN1 (in), 16 BST1 (power), 17 DH1 (out), 18 LX1, 19 DREG1 (power), 20 DL1 (out), 21 PGND1 (power), 22 COMP3 (out), 23 FB3 (in), 24 EN3 (in), 25 BST3 (power), 26 DH3 (out), 27 LX3, 28 DREG3 (power), 29 DL3 (out), 30 PGND3 (power), 31 IN (power), 32 REG (power), 33 EP (power)

## MAX15058EWL+
designator U?
High-Efficiency, 3A, Current-Mode Synchronous, Step-Down Switching Regulator, 9-Pin WLP, -40°C to +85°C, Pb-Free; DatasheetVersion: Rev 2, Jul-2011; PackageVersion: revA, 2010; PackageReference: W91E1Z+1; PackageDescription: 9-Bump WLP 0.5 mm Pitch, Pb-Free; ComponentLink1Description: Manufacturer URL; ComponentLink1URL: http://www.maxim-ic.com; ComponentLink2Description: Datasheet; ComponentLink2URL: http://datasheets.maxim-ic.com/en/ds/MAX15058.pdf; ComponentLink3Description: Package Specification; ComponentLink3URL: http://pdfserv.maxim-ic.com/package_dwgs/21-0508.PDF
footprint W91E1Z+1 (BGA, 9-Leads, Body 1.49x1.49mm, Pitch 0.5mm)
pins: A1 GND (power), A2 LX, A3 IN (power), B1 COMP (out), B2 SKIP, B3 EN (in), C1 FB (in), C2 SS/REFIN (in), C3 PGOOD (oc)

## MAX15058EWL+T
designator U?
High-Efficiency, 3A, Current-Mode Synchronous, Step-Down Switching Regulator, 9-Pin WLP, -40°C to +85°C, Pb-Free, Tape and Reel; DatasheetVersion: Rev 2, Jul-2011; PackageVersion: revA, 2010; PackageReference: W91E1Z+1; PackageDescription: 9-Bump WLP 0.5 mm Pitch, Pb-Free; ComponentLink1Description: Manufacturer URL; ComponentLink1URL: http://www.maxim-ic.com; ComponentLink2Description: Datasheet; ComponentLink2URL: http://datasheets.maxim-ic.com/en/ds/MAX15058.pdf; ComponentLink3Description: Package Specification; ComponentLink3URL: http://pdfserv.maxim-ic.com/package_dwgs/21-0508.PDF
footprint W91E1Z+1 (BGA, 9-Leads, Body 1.49x1.49mm, Pitch 0.5mm)
pins: A1 GND (power) "Analog Ground/Low-Side Switch Source Terminal. Connect to the PCB copper plane at one point near the input bypass capacitor return terminal.", A2 LX "Inductor Connection. Connect LX to the switched side of the inductor. LX is high impedance when the IC is in shutdown mode.", A3 IN (power) "Input Power Supply. Input supply range is from 2.7V to 5.5V. Bypass with a minimum 10uF ceramic capacitor to GND. See Figures 5 and 6.", B1 COMP (out) "Voltage Error-Amplifier Output. Connect the necessary compensation network from COMP to GND. See the Closing the Loop: Designing the Compensation Circuitry section.", B2 SKIP (in) "Skip-Mode Input. Connect to EN to select skip mode or leave unconnected for normal operation.", B3 EN (in) "Enable Input. EN is a digital input that turns the regulator on and ouF. Drive EN high to turn on the regula-tor. Connect to IN for always-on operation.", C1 FB (in) "Feedback Input. Connect FB to the center tap of an external resistor-divider from the output to GND to set the output voltage from 0.6V up to 94% of VIN.", C2 SS/REFIN (in) "Soft-Start/External Voltage Reference Input. Connect a capacitor from SS/REFIN to GND to set the startup time. See the Setting the Soft-Start Timesection for details on setting the soft-start time. Apply a voltage reference from 0V to VIN- 1.5V to drive", C3 PGOOD (oc) "Open-Drain Power-Good Output. PGOOD goes high when FB is above 555mV and pulls low if FB is below 527mV."

## MAX15066EWE+T
designator U?
High-Efficiency, 4A, Step-Down DC-DC Regulator with Internal Power Switches, 16-Pin WLP, -40°C to +85°C, Pb-Free, Tape and Reel; DatasheetVersion: Rev 3, Sep-2010; PackageVersion: revF, 2011; PackageReference: W162B2+1; PackageDescription: 16-Ball Wafer-Level Package (WLP) 4x4 Bump, Full Array, 0.5 mm Pitch, Pb-Free; ComponentLink1Description: Manufacturer URL; ComponentLink1URL: http://www.maxim-ic.com; ComponentLink2Description: Datasheet; ComponentLink2URL: http://datasheets.maxim-ic.com/en/ds/MAX15066.pdf; ComponentLink3Description: Package Specification; ComponentLink3URL: http://pdfserv.maxim-ic.com/package_dwgs/21-0200.PDF
footprint W162B2+1 (BGA, 16-Leads, Body 2.05x2.05mm, Pitch 0.5mm)
pins: A1 GND (power), A2 GND (power), A3 IN (power), A4 IN (power), B1 LX, B2 LX, B3 LX, B4 VDD (power), C1 BST (power), C2 IC, C3 IC, C4 EN (in), D1 PGOOD (oc), D2 FB (in), D3 COMP (out), D4 SS

## MAX15070AAUT+
designator U?
7A Sink, 3A Source, 12ns, SOT23 MOSFET Driver, 6-Pin SOT, -40°C to +125°C, Pb-Free; DatasheetVersion: Rev 1, Nov-2011; PackageVersion: revL, 2011; PackageReference: U6+1; PackageDescription: 6-Pin SOT-23 Package, 0.65 mm Pitch, 2.2 mm Lead Span, Pb-Free; Code_JEDEC: MO-178-AB; ComponentLink1Description: Manufacturer URL; ComponentLink1URL: http://www.maxim-ic.com; ComponentLink2Description: Datasheet; ComponentLink2URL: http://datasheets.maxim-ic.com/en/ds/MAX15070A-MAX15070B.pdf; ComponentLink3Description: Package Specification; ComponentLink3URL: http://pdfserv.maxim-ic.com/package_dwgs/21-0058.PDF
footprint U6+1_N (SOT23, 6-Leads, Body 2.9x1.6mm, Pitch 0.95mm, Lead Span 2.8mm, IPC Medium Density)
footprint U6+1_L (SOT23, 6-Leads, Body 2.9x1.6mm, Pitch 0.95mm, Lead Span 2.8mm, IPC High Density)
footprint U6+1_M (SOT23, 6-Leads, Body 2.9x1.6mm, Pitch 0.95mm, Lead Span 2.8mm, IPC Low Density)
pins: 1 IN+ (in), 2 GND (power), 3 IN- (in), 4 N_OUT (oc), 5 P_OUT (oe), 6 V+ (power)

## MAX15070AAUT+T
designator U?
7A Sink, 3A Source, 12ns, SOT23 MOSFET Driver, 6-Pin SOT, -40°C to +125°C, Pb-Free, Tape and Reel; DatasheetVersion: Rev 1, Nov-2011; PackageVersion: revL, 2011; PackageReference: U6+1; PackageDescription: 6-Pin SOT-23 Package, 0.65 mm Pitch, 2.2 mm Lead Span, Pb-Free; Code_JEDEC: MO-178-AB; ComponentLink1Description: Manufacturer URL; ComponentLink1URL: http://www.maxim-ic.com; ComponentLink2Description: Datasheet; ComponentLink2URL: http://datasheets.maxim-ic.com/en/ds/MAX15070A-MAX15070B.pdf; ComponentLink3Description: Package Specification; ComponentLink3URL: http://pdfserv.maxim-ic.com/package_dwgs/21-0058.PDF
footprint U6+1_N (SOT23, 6-Leads, Body 2.9x1.6mm, Pitch 0.95mm, Lead Span 2.8mm, IPC Medium Density)
footprint U6+1_L (SOT23, 6-Leads, Body 2.9x1.6mm, Pitch 0.95mm, Lead Span 2.8mm, IPC High Density)
footprint U6+1_M (SOT23, 6-Leads, Body 2.9x1.6mm, Pitch 0.95mm, Lead Span 2.8mm, IPC Low Density)
pins: 1 IN+ (in), 2 GND (power), 3 IN- (in), 4 N_OUT (oc), 5 P_OUT (oe), 6 V+ (power)

## MAX15070AAUT/V+T
designator U?
7A Sink, 3A Source, 12ns, SOT23 MOSFET Driver, 6-Pin SOT, -40°C to +125°C, Pb-Free, Tape and Reel; DatasheetVersion: Rev 1, Nov-2011; PackageVersion: revL, 2011; PackageReference: U6+1; PackageDescription: 6-Pin SOT-23 Package, 0.65 mm Pitch, 2.2 mm Lead Span, Pb-Free; Code_JEDEC: MO-178-AB; ComponentLink1Description: Manufacturer URL; ComponentLink1URL: http://www.maxim-ic.com; ComponentLink2Description: Datasheet; ComponentLink2URL: http://datasheets.maxim-ic.com/en/ds/MAX15070A-MAX15070B.pdf; ComponentLink3Description: Package Specification; ComponentLink3URL: http://pdfserv.maxim-ic.com/package_dwgs/21-0058.PDF
footprint U6+1_N (SOT23, 6-Leads, Body 2.9x1.6mm, Pitch 0.95mm, Lead Span 2.8mm, IPC Medium Density)
footprint U6+1_L (SOT23, 6-Leads, Body 2.9x1.6mm, Pitch 0.95mm, Lead Span 2.8mm, IPC High Density)
footprint U6+1_M (SOT23, 6-Leads, Body 2.9x1.6mm, Pitch 0.95mm, Lead Span 2.8mm, IPC Low Density)
pins: 1 IN+ (in), 2 GND (power), 3 IN- (in), 4 N_OUT (oc), 5 P_OUT (oe), 6 V+ (power)

## MAX15070BAUT+
designator U?
7A Sink, 3A Source, 12ns, SOT23 MOSFET Driver, 6-Pin SOT, -40°C to +125°C, Pb-Free; DatasheetVersion: Rev 1, Nov-2011; PackageVersion: revL, 2011; PackageReference: U6+1; PackageDescription: 6-Pin SOT-23 Package, 0.65 mm Pitch, 2.2 mm Lead Span, Pb-Free; Code_JEDEC: MO-178-AB; ComponentLink1Description: Manufacturer URL; ComponentLink1URL: http://www.maxim-ic.com; ComponentLink2Description: Datasheet; ComponentLink2URL: http://datasheets.maxim-ic.com/en/ds/MAX15070A-MAX15070B.pdf; ComponentLink3Description: Package Specification; ComponentLink3URL: http://pdfserv.maxim-ic.com/package_dwgs/21-0058.PDF
footprint U6+1_N (SOT23, 6-Leads, Body 2.9x1.6mm, Pitch 0.95mm, Lead Span 2.8mm, IPC Medium Density)
footprint U6+1_L (SOT23, 6-Leads, Body 2.9x1.6mm, Pitch 0.95mm, Lead Span 2.8mm, IPC High Density)
footprint U6+1_M (SOT23, 6-Leads, Body 2.9x1.6mm, Pitch 0.95mm, Lead Span 2.8mm, IPC Low Density)
pins: 1 IN+ (in), 2 GND (power), 3 IN- (in), 4 N_OUT (oc), 5 P_OUT (oe), 6 V+ (power)

## MAX15070BAUT+T
designator U?
7A Sink, 3A Source, 12ns, SOT23 MOSFET Driver, 6-Pin SOT, -40°C to +125°C, Pb-Free, Tape and Reel; DatasheetVersion: Rev 1, Nov-2011; PackageVersion: revL, 2011; PackageReference: U6+1; PackageDescription: 6-Pin SOT-23 Package, 0.65 mm Pitch, 2.2 mm Lead Span, Pb-Free; Code_JEDEC: MO-178-AB; ComponentLink1Description: Manufacturer URL; ComponentLink1URL: http://www.maxim-ic.com; ComponentLink2Description: Datasheet; ComponentLink2URL: http://datasheets.maxim-ic.com/en/ds/MAX15070A-MAX15070B.pdf; ComponentLink3Description: Package Specification; ComponentLink3URL: http://pdfserv.maxim-ic.com/package_dwgs/21-0058.PDF
footprint U6+1_N (SOT23, 6-Leads, Body 2.9x1.6mm, Pitch 0.95mm, Lead Span 2.8mm, IPC Medium Density)
footprint U6+1_L (SOT23, 6-Leads, Body 2.9x1.6mm, Pitch 0.95mm, Lead Span 2.8mm, IPC High Density)
footprint U6+1_M (SOT23, 6-Leads, Body 2.9x1.6mm, Pitch 0.95mm, Lead Span 2.8mm, IPC Low Density)
pins: 1 IN+ (in), 2 GND (power), 3 IN- (in), 4 N_OUT (oc), 5 P_OUT (oe), 6 V+ (power)

## MAX15108EWP+T
designator U?
High-Efficiency, 8A, Current-Mode Synchronous, Step-Down Switching Regulator, 20-Pin WLP, -40°C to +85°C, Pb-Free, Tape and Reel; DatasheetVersion: Rev 1, Sep-2011; PackageVersion: revC, 2012; PackageReference: W202D2Z+1; PackageDescription: 20-Ball Wafer-Level Package 4x5 Bump, Full Array, 0.5 mm Pitch, Pb-Free; ComponentLink1Description: Manufacturer URL; ComponentLink1URL: http://www.maxim-ic.com; ComponentLink2Description: Datasheet; ComponentLink2URL: http://datasheets.maxim-ic.com/en/ds/MAX15108.pdf; ComponentLink3Description: Package Specification; ComponentLink3URL: http://pdfserv.maxim-ic.com/package_dwgs/21-0505.PDF
footprint W202D2Z+1 (BGA, 20-Leads, Body 2.1x2.6mm, Pitch 0.5mm)
pins: A1 PGND (power) "Power Ground. Low-side switch source terminal. Connect PGND and the return terminals of input and output capacitors to the power ground plane.", A2 LX "Inductor Connection. Connect LX to the switching side of the inductor. LX is high impedance when the device is in shutdown mode.", A3 LX "Inductor Connection. Connect LX to the switching side of the inductor. LX is high impedance when the device is in shutdown mode.", A4 PGOOD (oc) "Open-Drain Power-Good Output. PGOOD goes low when VFBis below 530mV.", A5 PGND (power) "Power Ground. Low-side switch source terminal. Connect PGND and the return terminals of input and output capacitors to the power ground plane.", B1 PGND (power) "Power Ground. Low-side switch source terminal. Connect PGND and the return terminals of input and output capacitors to the power ground plane.", B2 LX "Inductor Connection. Connect LX to the switching side of the inductor. LX is high impedance when the device is in shutdown mode.", B3 IN (power) "Input Power Supply. Input supply range is 2.7V to 5.5V. Bypass IN with a minimum 10uF ceramic capacitor to PGND. See the Typical Application Circuit.", B4 I.C. "Internally Connected. Leave unconnected.", B5 FB (in) "Feedback Input. Connect FB to the center tap of an external resistive voltage-divider from the output to PGND to set the output voltage from 0.6Vto 95% of VIN.", C1 PGND (power) "Power Ground. Low-side switch source terminal. Connect PGND and the return terminals of input and output capacitors to the power ground plane.", C2 LX "Inductor Connection. Connect LX to the switching side of the inductor. LX is high impedance when the device is in shutdown mode.", C3 IN (power) "Input Power Supply. Input supply range is 2.7V to 5.5V. Bypass IN with a minimum 10uF ceramic capacitor to PGND. See the Typical Application Circuit.", C4 SKIP (in) "Skip Mode Input. Connect SKIP to EN to select skip mode or leave unconnected for fixed-frequency PWM operation.", C5 SS (in) "Soft-Start. Connect a capacitor from SS to PGND to set the startup time. See the Soft-Startsection for details on setting the soft-start time. SS is also an external reference input. Apply an external voltage reference from 0V to VIN- 1.5V to drive soft-", D1 PGND (power) "Power Ground. Low-side switch source terminal. Connect PGND and the return terminals of input and output capacitors to the power ground plane.", D2 INX "Input Bump for Control Section. Connect to IN.", D3 IN (power) "Input Power Supply. Input supply range is 2.7V to 5.5V. Bypass IN with a minimum 10uF ceramic capacitor to PGND. See the Typical Application Circuit.", D4 EN (in) "Enable Input. EN is a digital input that turns the regulator on and ouF. Drive EN high to turn on the regulator. Connect to IN for always-on operation.", D5 COMP (out) "Error Amplifier Output. Connect compensation network from COMP to signal ground (SGND). See the Compensation Design Guidelines section."